# EAGLE library part SGL8022W_SOP8 (library SGL8022W_SOP8)
Single-channel DC LED control touch chip Version 1.6 Source: Datasheet <http://www.coldtears-electronics.com/images/SGL8022W.pdf>
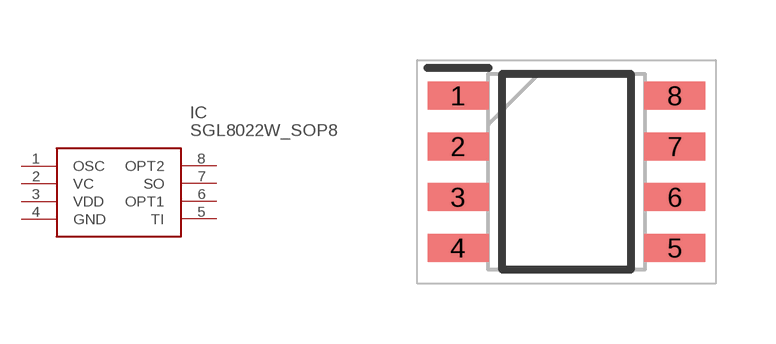
[diagram p0: symbol with the pads of SOIC127P600X177-8N; footprint SOIC127P600X177-8N]

Designator prefix IC

## SGL8022W_SOP8 (Description: Single-channel DC LED control touch chip Version 1.6; Height: 1.77mm; Manufacturer_Name: Sigma Designs Inc.; Manufacturer_Part_Number: SGL8022W/SOP8)  [SOIC127P600X177-8N]
1  OSC
2  VC
3  VDD
4  GND
5  TI
6  OPT1
7  SO
8  OPT2

## Footprint SOIC127P600X177-8N (pad centres in mm)
SOP8
smd 1.525 x 0.7: 1 -2.712,1.905; 2 -2.712,0.635; 3 -2.712,-0.635; 4 -2.712,-1.905; 5 2.712,-1.905; 6 2.712,-0.635; 7 2.712,0.635; 8 2.712,1.905